# EAGLE library part CY8C27143-24* (library cypress_psoc)
PSoC Mixed-Signal Array CY8C27143-24PXI (DIP)
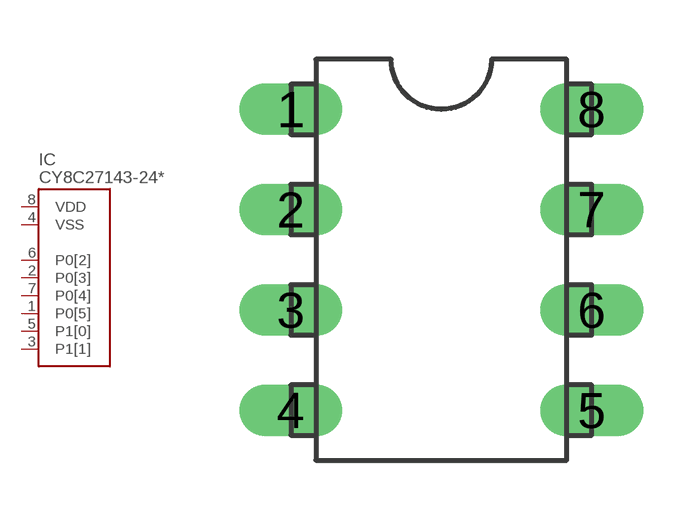
[diagram p2: symbol with the pads of PDIP8; footprint PDIP8]

Designator prefix IC

## CY8C27143-24PXI  [PDIP8]
1  P0[5]
2  P0[3]
3  P1[1]
4  VSS  pwr
5  P1[0]
6  P0[2]
7  P0[4]
8  VDD  pwr

## Footprint PDIP8 (pad centres in mm)
drill 0.8 long: 1 -3.81,3.81; 2 -3.81,1.27; 3 -3.81,-1.27; 4 -3.81,-3.81; 5 3.81,-3.81; 6 3.81,-1.27; 7 3.81,1.27; 8 3.81,3.81